# Altium footprint library Коммут элементы-mm.PcbLib: 50 footprints (part 3 of 4)
Each footprint in its own frame and in the unit in brackets; x right, y up, seen from the top. Pads: shape width x height; smd on the part's side, far side on the other; paste and mask are expansions set on the pad; w line width, h text height; cw(c..) or ccw(c..) is an arc to the next point about the centre after c.
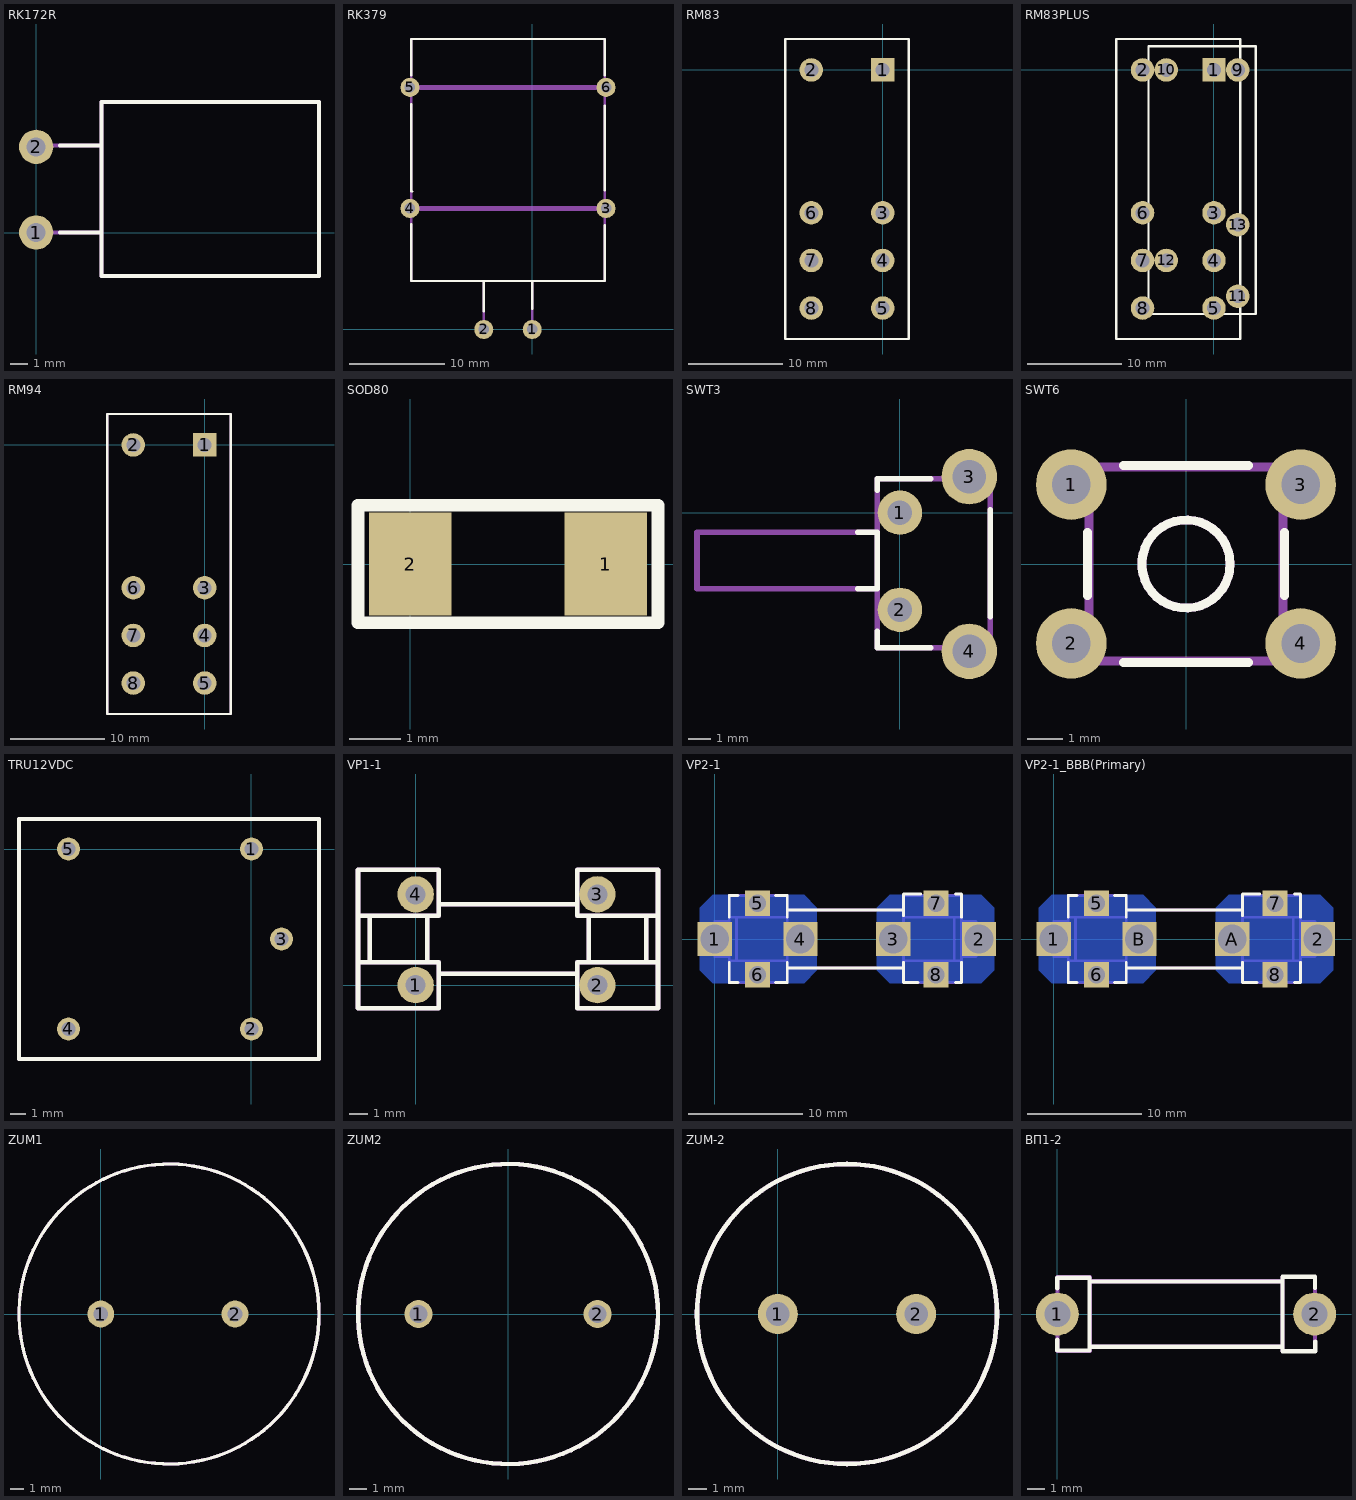
[diagram p2: the footprints below, top view; thin cyan lines are the x and y axes]

## RK172R [mm]
pads (2):
  round 2 hole 1.1: 1(0,0) 2(0,5)
Top Overlay:
  lines w0.25: 1.397,0 3.81,0 ; 1.397,5.08 3.81,5.08 ; 3.81,-2.54 16.51,-2.54 16.51,7.62 3.81,7.62 3.81,-2.54
Mechanical 1:
  lines w0.25: 0,0 3.81,0 ; 0,5.08 3.81,5.08 ; 3.81,-2.54 16.51,-2.54 16.51,7.62 3.81,7.62 3.81,-2.54

## RK379 [mm]
pads (6):
  round 2 hole 1.1: 1(0,0) 2(-5.08,0) 3(7.747,12.7) 4(-12.827,12.7) 5(-12.827,25.4) 6(7.747,25.4)
Top Overlay:
  lines w0.25: -12.7,11.049 -12.7,5.08 -10.033,5.08 7.62,5.08 7.62,10.922 ; -12.7,23.622 -12.7,14.478 -12.573,14.478 ; -12.7,26.67 -12.7,30.48 -12.573,30.48 7.62,30.48 7.62,26.67 ; -5.08,1.905 -5.08,5.08 ; 0,2.159 0,5.08 ; 7.62,14.605 7.62,23.495
Mechanical 1:
  lines w0.25: -5.08,0 -5.08,5.08 ; 0,0 0,5.08 ; -12.7,5.08 7.62,5.08 7.62,30.48 -12.7,30.48 -12.7,5.08
  lines w0.5: -12.7,12.7 7.62,12.7 ; -12.7,25.4 7.62,25.4

## RM83 [mm]
pads (8):
  rect 2.5x2.5 hole 1.5: 1(0,0)
  round 2.5 hole 1.5: 2(-7.62,0) 3(0,-15.24) 4(0,-20.32) 5(0,-25.4) 6(-7.62,-15.24) 7(-7.62,-20.32) 8(-7.62,-25.4)
Top Overlay:
  lines w0.25: -10.414,-28.702 2.794,-28.702 2.794,3.302 -10.414,3.302 -10.414,-28.702

## RM83PLUS [mm]
pads (13):
  rect 2.5x2.5 hole 1.5: 1(0,0)
  round 2.5 hole 1.5: 2(-7.62,0) 3(0,-15.24) 4(0,-20.32) 5(0,-25.4) 6(-7.62,-15.24) 7(-7.62,-20.32) 8(-7.62,-25.4) 9(2.54,0) 10(-5.08,0) 11(2.54,-24.13) 12(-5.08,-20.32) 13(2.54,-16.51)
Top Overlay:
  lines w0.254: -10.414,-28.702 2.794,-28.702 2.794,3.302 -10.414,3.302 -10.414,-28.702 ; -6.985,-26.035 4.445,-26.035 4.445,2.54 -6.985,2.54 -6.985,-26.035

## RM94 [mm]
pads (8):
  rect 2.5x2.5 hole 1.5: 1(0,0)
  round 2.5 hole 1.5: 2(-7.62,0) 3(0,-15.24) 4(0,-20.32) 5(0,-25.4) 6(-7.62,-15.24) 7(-7.62,-20.32) 8(-7.62,-25.4)
Top Overlay:
  lines w0.25: -10.414,-28.702 2.794,-28.702 2.794,3.302 -10.414,3.302 -10.414,-28.702
Mechanical 1:
  lines w0.25: -10.414,-28.702 2.794,-28.702 2.794,3.302 -10.414,3.302 -10.414,-28.702

## SOD80 [mm]
pads (2):
  rect 1.6x2 smd: 1(3.81,0) 2(0,0)
Top Overlay:
  lines w0.25: -1.016,-1.143 4.826,-1.143 4.826,1.143 -1.016,1.143 -1.016,-1.143

## SWT3 [mm]
pads (4):
  round 2 hole 1.1: 1(0,0) 2(0,-4.375)
  round 2.5 hole 1.5: 3(3.125,1.625) 4(3.125,-6.25)
Top Overlay:
  lines w0.25: -1.905,-3.429 -1.016,-3.429 -1.016,-0.889 ; -1.905,-0.889 -1.143,-0.889 ; -1.016,-5.334 -1.016,-6.096 1.397,-6.096 ; -1.016,1.016 -1.016,1.524 1.397,1.524 ; 4.064,-4.699 4.064,0.127
Mechanical 1:
  lines w0.25: -1.016,-3.429 -9.144,-3.429 -9.144,-0.889 -1.016,-0.889 ; -1.016,-6.096 4.064,-6.096 4.064,1.524 0,1.524 -1.016,1.524 -1.016,-6.096

## SWT6 [mm]
pads (4):
  round 2 hole 1.1: 1(-3.25,2.25) 2(-3.25,-2.25) 3(3.25,2.25) 4(3.25,-2.25)
Top Overlay:
  circle w0.25: c0,0 r1.25
  lines w0.25: -2.794,-0.889 -2.794,0.889 ; -1.778,-2.794 1.778,-2.794 ; -1.778,2.794 1.778,2.794 ; 2.794,-0.889 2.794,0.889
Mechanical 1:
  circle w0.25: c0,0 r1.25
  lines w0.25: -2.75,-2.75 2.75,-2.75 2.75,2.75 -2.75,2.75 -2.75,-2.75

## TRU12VDC [mil]
pads (5):
  round 60 hole 38: 1(0,0) 2(0,-472.44) 3(78.74,-236.22) 4(-480.31,-472.44) 5(-480.31,0)
Top Overlay:
  lines w9.84: -610.24,-551.18 177.17,-551.18 177.17,78.74 -610.24,78.74 -610.24,-551.18
Mechanical 1:
  lines w9.84: -610.24,-551.18 177.17,-551.18 177.17,78.74 -610.24,78.74 -610.24,-551.18

## VP1-1 [mm]
pads (4):
  round 2 hole 1.1: 1(0,0) 2(10,0) 3(10,5) 4(0,5)
Top Overlay:
  lines w0.25: -3.175,1.27 1.27,1.27 1.27,-1.27 -3.175,-1.27 -3.175,6.35 1.27,6.35 1.27,3.81 -3.175,3.81 ; -2.54,1.27 -2.54,3.81 ; 0.635,1.27 0.635,3.81 ; 1.27,0.635 8.89,0.635 ; 1.27,4.445 8.89,4.445 ; 9.525,1.27 9.525,3.81 ; 12.7,1.27 12.7,3.81 ; 13.335,1.27 8.89,1.27 8.89,0.635 ; 13.335,3.81 8.89,3.81 8.89,4.445 ; 8.89,0.635 8.89,-1.27 13.335,-1.27 13.335,6.35 8.89,6.35 8.89,4.445
Mechanical 1:
  lines w0.25: -3.175,1.27 1.27,1.27 1.27,-1.27 -3.175,-1.27 -3.175,6.35 1.27,6.35 1.27,3.81 -3.175,3.81 ; -2.54,1.27 -2.54,3.81 ; 0.635,1.27 0.635,3.81 ; 1.27,0.635 8.89,0.635 ; 1.27,4.445 8.89,4.445 ; 9.525,1.27 9.525,3.81 ; 12.7,1.27 12.7,3.81 ; 13.335,1.27 8.89,1.27 8.89,0.635 ; 13.335,3.81 8.89,3.81 8.89,4.445 ; 8.89,0.635 8.89,-1.27 13.335,-1.27 13.335,6.35 8.89,6.35 8.89,4.445

## VP2-1 [mm]
pads (8):
  rect 3x3 hole 2.5: 1(0,0) 2(23.125,0) 3(15.625,0) 4(7.5,0)
  rect 2.2x2.2 hole 1.5: 5(3.75,3.125) 6(3.75,-3.125) 7(19.375,3.125) 8(19.375,-3.125)
Bottom Layer:
  region: 14.2,-2.75 15.325,-3.875 23.325,-3.875 24.45,-2.75 24.45,2.75 23.325,3.875 15.325,3.875 14.2,2.75
  region: -1.3,-2.75 -0.175,-3.875 7.825,-3.875 8.95,-2.75 8.95,2.75 7.825,3.875 -0.175,3.875 -1.3,2.75
Top Overlay:
  lines w0.25: 1.27,-2.032 1.27,-3.81 2.032,-3.81 ; 1.27,1.905 1.27,3.81 2.032,3.81 ; 5.334,-3.81 6.35,-3.81 6.35,-2.032 ; 5.334,3.81 6.35,3.81 6.35,1.905 ; 6.35,-2.54 16.51,-2.54 ; 6.35,2.54 16.383,2.54 ; 16.51,-2.032 16.51,-3.81 17.78,-3.81 ; 16.51,2.032 16.51,3.937 18.034,3.937 ; 21.082,-3.81 21.463,-3.81 21.59,-3.81 21.59,-2.032 ; 21.082,3.937 21.59,3.937 21.59,1.905
Top Solder:
  lines w0.25: 6.35,-3.81 6.35,-2.032 ; 16.51,1.905 16.51,3.937
Bottom Solder:
  region: 13.95,-2.875 15.2,-4.125 23.45,-4.125 24.7,-2.875 24.7,2.875 23.45,4.125 15.2,4.125 13.95,2.875
  region: -1.55,-2.875 -0.3,-4.125 7.95,-4.125 9.2,-2.875 9.2,2.875 7.95,4.125 -0.3,4.125 -1.55,2.875
Mechanical 1:
  lines w0.25: 1.27,-1.905 6.35,-1.905 ; 1.27,-1.524 0,-1.524 0,1.524 1.27,1.524 ; 1.27,1.905 6.35,1.905 ; 1.905,-1.905 1.905,1.905 ; 6.35,-2.54 16.51,-2.54 ; 6.35,2.54 16.51,2.54 ; 16.51,-1.905 21.59,-1.905 ; 16.51,1.905 21.59,1.905 ; 20.955,-1.905 20.955,1.905 ; 21.59,-1.524 22.86,-1.524 22.86,1.524 21.59,1.524 ; 1.27,-3.81 6.35,-3.81 6.35,3.81 1.27,3.81 1.27,-3.81 ; 16.51,-3.81 21.59,-3.81 21.59,3.81 16.51,3.81 16.51,-3.81

## VP2-1_ВВВ(Primary) [mm]
pads (8):
  rect 3x3 hole 2.5: 1(0,0) 2(23.125,0) A(15.625,0) B(7.5,0)
  rect 2.2x2.2 hole 1.5: 5(3.75,3.125) 6(3.75,-3.125) 7(19.375,3.125) 8(19.375,-3.125)
Bottom Layer:
  region: 14.2,-2.75 15.325,-3.875 23.325,-3.875 24.45,-2.75 24.45,2.75 23.325,3.875 15.325,3.875 14.2,2.75
  region: -1.3,-2.75 -0.175,-3.875 7.825,-3.875 8.95,-2.75 8.95,2.75 7.825,3.875 -0.175,3.875 -1.3,2.75
Top Overlay:
  lines w0.25: 1.27,-2.032 1.27,-3.81 2.032,-3.81 ; 1.27,1.905 1.27,3.81 2.032,3.81 ; 5.334,-3.81 6.35,-3.81 6.35,-2.032 ; 5.334,3.81 6.35,3.81 6.35,1.905 ; 6.35,-2.54 16.51,-2.54 ; 6.35,2.54 16.383,2.54 ; 16.51,-2.032 16.51,-3.81 17.78,-3.81 ; 16.51,2.032 16.51,3.937 18.034,3.937 ; 21.082,-3.81 21.463,-3.81 21.59,-3.81 21.59,-2.032 ; 21.082,3.937 21.59,3.937 21.59,1.905
Top Solder:
  lines w0.25: 6.35,-3.81 6.35,-2.032 ; 16.51,1.905 16.51,3.937
Bottom Solder:
  region: 13.95,-2.875 15.2,-4.125 23.45,-4.125 24.7,-2.875 24.7,2.875 23.45,4.125 15.2,4.125 13.95,2.875
  region: -1.55,-2.875 -0.3,-4.125 7.95,-4.125 9.2,-2.875 9.2,2.875 7.95,4.125 -0.3,4.125 -1.55,2.875
Mechanical 1:
  lines w0.25: 1.27,-1.905 6.35,-1.905 ; 1.27,-1.524 0,-1.524 0,1.524 1.27,1.524 ; 1.27,1.905 6.35,1.905 ; 1.905,-1.905 1.905,1.905 ; 6.35,-2.54 16.51,-2.54 ; 6.35,2.54 16.51,2.54 ; 16.51,-1.905 21.59,-1.905 ; 16.51,1.905 21.59,1.905 ; 20.955,-1.905 20.955,1.905 ; 21.59,-1.524 22.86,-1.524 22.86,1.524 21.59,1.524 ; 1.27,-3.81 6.35,-3.81 6.35,3.81 1.27,3.81 1.27,-3.81 ; 16.51,-3.81 21.59,-3.81 21.59,3.81 16.51,3.81 16.51,-3.81

## ZUM1 [mm]
pads (2):
  round 2 hole 1.1: 1(0,0) 2(10,0)
Top Overlay:
  circle w0.25: c5.08,0 r11.176
Mechanical 1:
  circle w0.25: c5.08,0 r11.176

## ZUM2 [mm]
pads (2):
  round 1.6 hole 1: 1(-5.08,0) 2(5.08,0)
Top Overlay:
  circle w0.25: c0,0 r8.509
Mechanical 1:
  circle w0.25: c0,0 r8.509

## ZUM-2 [mm]
pads (2):
  round 2.2 hole 1.3: 1(0,0) 2(7.62,0)
Top Overlay:
  circle w0.25: c3.81,0 r8.255
Mechanical 1:
  circle w0.25: c3.81,0 r8.255

## ВП1-2 [mm]
pads (2):
  round 2.5 hole 1.5: 1(0,0) 2(15,0)
Top Overlay:
  lines w0.25: -0.005,-1.5 -0.005,-2.125 1.87,-2.125 1.87,2.125 -0.005,2.125 -0.005,1.5 ; 1.895,-1.915 13.115,-1.915 13.115,-1.9 ; 1.895,1.9 13.115,1.9 13.115,1.87 ; 15.03,1.52 15.03,2.17 13.13,2.17 13.13,2.1 13.13,-2.165 15.045,-2.165 15.045,-2.1 15.045,-1.6
Mechanical 1:
  lines w0.25: 1.905,-1.778 1.905,-2.159 0,-2.159 0,-1.905 0,1.905 0,2.032 0,2.159 1.905,2.159 1.905,1.905 ; 13.11,-1.91 1.905,-1.905 1.905,1.905 ; 13.12,1.91 1.905,1.905 ; 13.125,-2.159 15.03,-2.159 15.03,-1.905 15.03,1.905 15.03,2.159 13.125,2.159 13.125,1.905 13.125,-1.905 13.125,-2.159